# Altium footprint library DIP825W45P254L1905H9015Q14.PcbLib: 1 footprints
Each footprint in its own frame and in the unit in brackets; x right, y up, seen from the top. Pads: shape width x height; smd on the part's side, far side on the other; paste and mask are expansions set on the pad; w line width, h text height; cw(c..) or ccw(c..) is an arc to the next point about the centre after c.
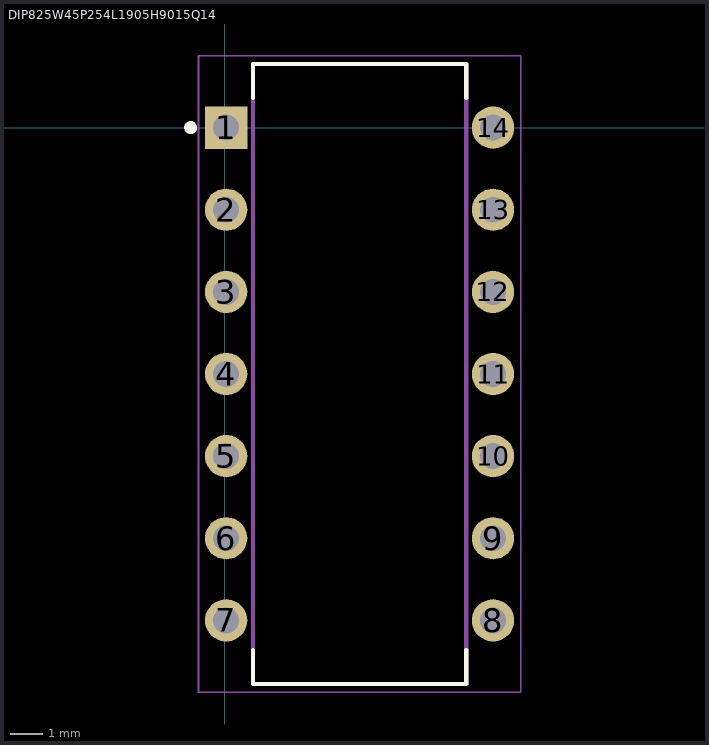
[diagram p0: the footprint, top view; thin cyan lines are the x and y axes]

## DIP825W45P254L1905H9015Q14 [mm]
pads (14):
  rect 1.308x1.308 hole 0.8: 1(0.045,0)
  round 1.308 hole 0.8: 2(0.045,-2.54) 3(0.045,-5.08) 4(0.045,-7.62) 5(0.045,-10.16) 6(0.045,-12.7) 7(0.045,-15.24) 8(8.3,-15.24) 9(8.3,-12.7) 10(8.3,-10.16) 11(8.3,-7.62) 12(8.297,-5.08) 13(8.3,-2.54) 14(8.3,0)
Top Overlay:
  circle w0.2: c-1.052,0 r0.1
  lines w0.127: 0.873,-16.16 0.873,-17.21 7.472,-17.21 7.472,-16.16 ; 0.873,0.92 0.873,1.97 7.472,1.97 7.472,0.92
Mechanical 13:
  lines w0.127: 0.873,-17.21 7.472,-17.21 7.472,1.97 0.873,1.97 0.873,-17.21
Mechanical 15:
  lines w0.05: -0.807,-17.46 -0.807,2.22 9.152,2.22 9.152,-17.46 -0.807,-17.46
3D body "step_temp.STEP": height 5.33, standoff -3.43, extent -0.063,-17.145 8.445,1.905